# Altium footprint library Fasteners & Fixings.PcbLib: 118 footprints (part 1 of 8)
Each footprint in its own frame and in the unit in brackets; x right, y up, seen from the top. Pads: shape width x height; smd on the part's side, far side on the other; paste and mask are expansions set on the pad; w line width, h text height; cw(c..) or ccw(c..) is an arc to the next point about the centre after c.
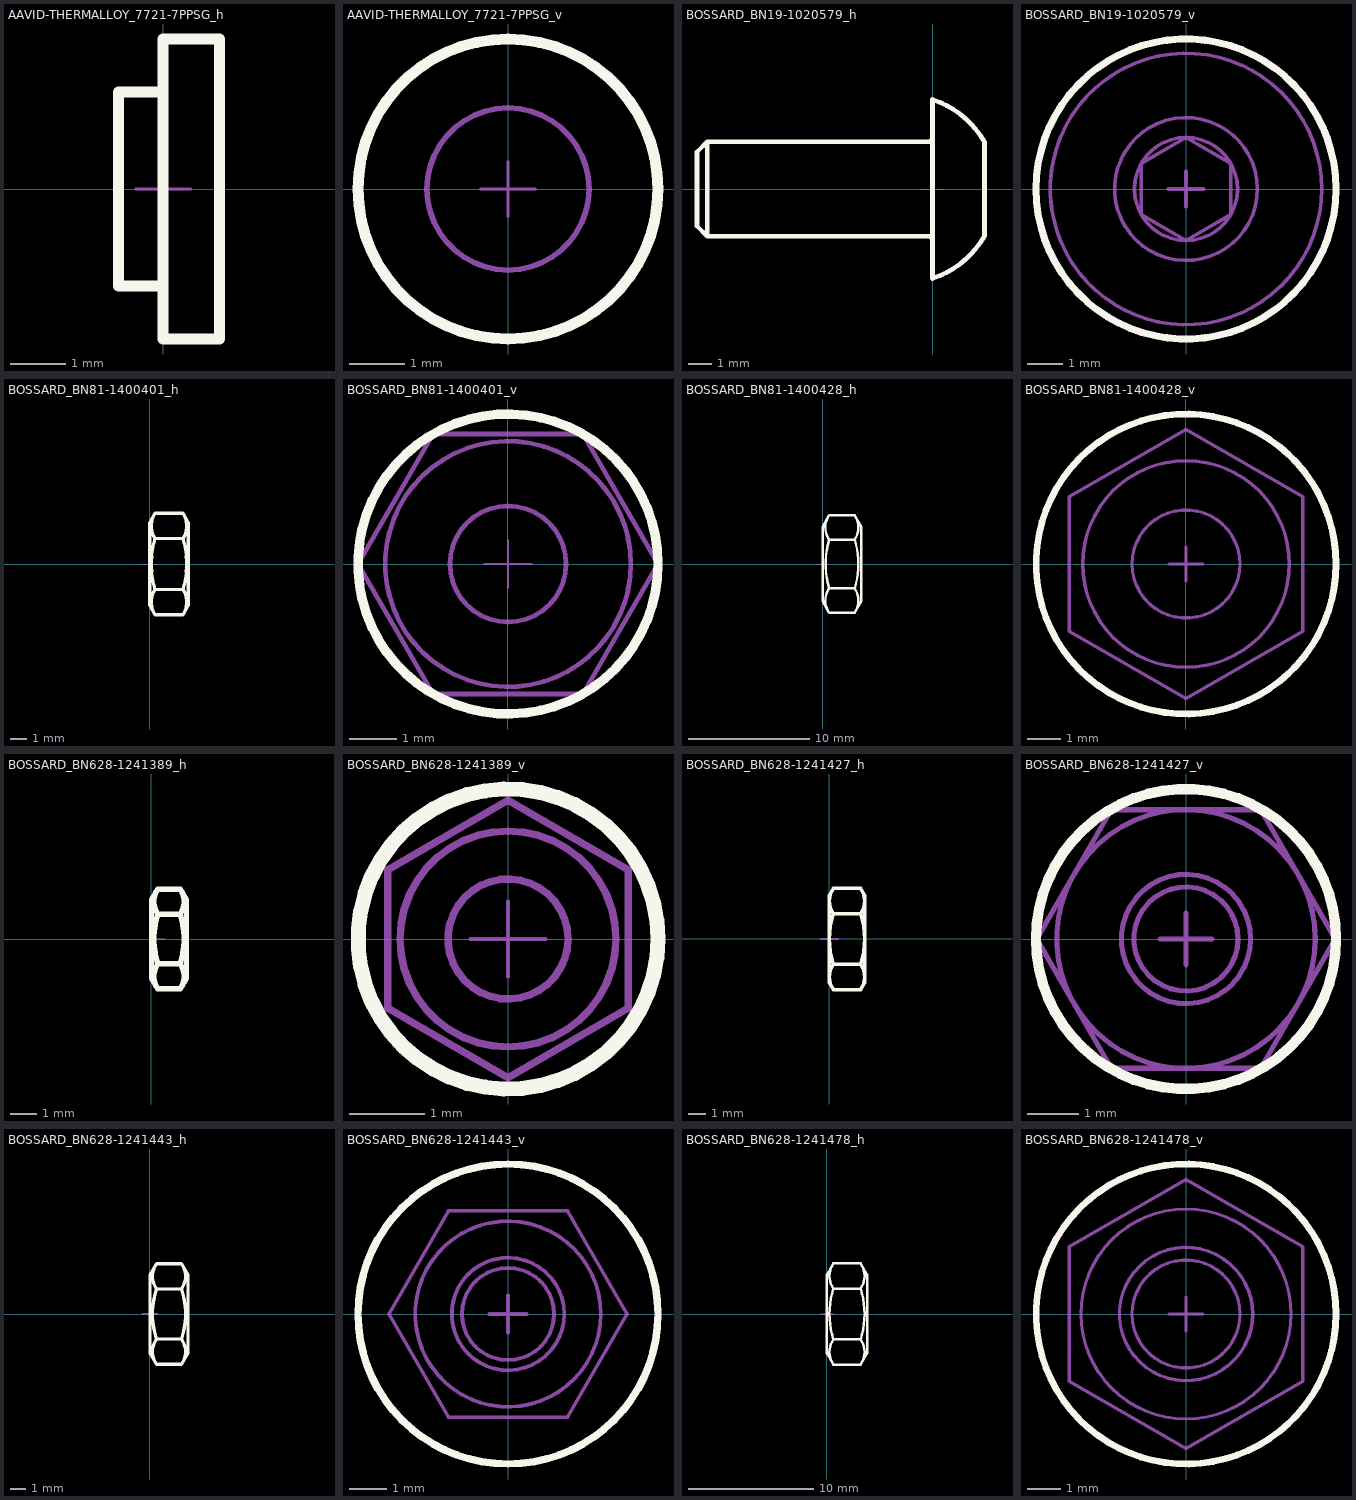
[diagram p0: the footprints below, top view; thin cyan lines are the x and y axes]

## AAVID-THERMALLOY_7721-7PPSG_h [mm] "Polyphenylene Sulfide PPS Shoulder Washer"
height 5.46
Top Overlay:
  lines w0.2: 0,-1.765 -0.81,-1.765 -0.81,1.765 0,1.765 ; 0,-2.73 1.02,-2.73 1.02,2.73 0,2.73 0,-2.73
Mechanical 8:
  lines w0.05: -0.5,0 0,0 ; 0,-0.5 0,0 ; 0,0.5 0,0 ; 0.5,0 0,0
Mechanical 14:
  lines w0.1: 0,-1.765 -0.81,-1.765 -0.81,1.765 0,1.765 ; 0,-2.73 1.02,-2.73 1.02,2.73 0,2.73 0,-2.73
3D body "AAVID-THERMALLOY_7721-7PPSG_h.stp": height 2.73, standoff -2.73, extent -0.81,-2.729 1.02,2.729

## AAVID-THERMALLOY_7721-7PPSG_v [mm] "Polyphenylene Sulfide PPS Shoulder Washer"
height 1.91
Top Overlay:
  circle w0.2: c0,0 r2.73
Mechanical 8:
  lines w0.05: -0.5,0 0,0 ; 0,-0.5 0,0 ; 0,0.5 0,0 ; 0.5,0 0,0
Mechanical 14:
  circle w0.1: c0,0 r1.475
  circle w0.1: c0,0 r2.73
3D body "AAVID-THERMALLOY_7721-7PPSG_v.stp": height 1.02, standoff -0.81, extent -2.73,-2.729 2.73,2.729

## BOSSARD_BN19-1020579_h [mm] "M4 L=10mm Hex Socket Button Head Cap Screw, Fully Threaded, Steel 010.9 Black"
height 7.6
Top Overlay:
  lines w0.2: 0,-2.2 ccw(c-0.2,-2.2) -0.2,-2 -9.57,-2 ; 0,2.2 cw(c-0.2,2.2) -0.2,2 -9.57,2 ; -9.57,-2 -10,-1.57 -10,1.57 -9.57,2 ; -9.57,-2 -9.57,2 ; 0,-3.8 ccw(c-1.273,0) 2.2,-2 2.2,2 ccw(c-1.273,0) 0,3.8 0,-3.8
Mechanical 8:
  lines w0.05: -0.5,0 0,0 ; 0,-0.5 0,0 ; 0,0.5 0,0 ; 0.5,0 0,0
Mechanical 14:
  lines w0.1: 0,-2.2 ccw(c-0.2,-2.2) -0.2,-2 -9.57,-2 ; 0,2.2 cw(c-0.2,2.2) -0.2,2 -9.57,2 ; -9.57,-2 -10,-1.57 -10,1.57 -9.57,2 ; -9.57,-2 -9.57,2 ; 0,-3.8 ccw(c-1.273,0) 2.2,-2 2.2,2 ccw(c-1.273,0) 0,3.8 0,-3.8
3D body "BOSSARD_BN19-1020579_h.stp": height 3.8, standoff -3.8, extent -10,-3.8 2.2,3.8

## BOSSARD_BN19-1020579_v [mm] "M4 L=10mm Hex Socket Button Head Cap Screw, Fully Threaded, Steel 010.9 Black"
height 12.2
Top Overlay:
  circle w0.2: c0,0 r4.2
Mechanical 8:
  lines w0.1: -0.5,0 0,0 ; 0,-0.5 0,0 ; 0,0.5 0,0 ; 0.5,0 0,0
Mechanical 14:
  circle w0.1: c0,0 r3.8
  circle w0.1: c0,0 r2
  circle w0.1: c0,0 r1.443
  lines w0.1: -1.25,-0.722 0,-1.443 1.25,-0.722 1.25,0.722 0,1.443 -1.25,0.722 -1.25,-0.722
3D body "BOSSARD_BN19-1020579_v.stp": height 2.2, standoff -10, extent -3.8,-3.8 3.8,3.8

## BOSSARD_BN81-1400401_h [mm] "M3 Hexagon Nut ~0,8d, DIN 555, Polyamide PA 6.6"
height 6.35
Top Overlay:
  lines w0.2: 0.332,-3.175 cw(c1.492,-2.382) 0.332,-1.588 ; 0.332,-3.175 2.068,-3.175 ; 0.332,-3.175 0,-2.6 0,2.6 0.332,3.175 ; 0.332,-1.588 cw(c5.341,0) 0.332,1.588 ; 0.332,-1.588 2.068,-1.588 ; 0.332,1.588 cw(c1.492,2.382) 0.332,3.175 ; 0.332,1.588 2.068,1.588 ; 0.332,3.175 2.068,3.175 ; 2.068,-3.175 ccw(c0.908,-2.382) 2.068,-1.588 ; 2.068,-3.175 2.4,-2.6 2.4,2.6 2.068,3.175 ; 2.068,-1.588 ccw(c-2.941,0) 2.068,1.588 ; 2.068,1.588 ccw(c0.908,2.382) 2.068,3.175
Mechanical 8:
  lines w0.05: -0.5,0 0,0 ; 0,-0.5 0,0 ; 0,0.5 0,0 ; 0.5,0 0,0
Mechanical 14:
  lines w0.1: 0.332,-3.175 cw(c1.492,-2.382) 0.332,-1.588 ; 0.332,-3.175 2.068,-3.175 ; 0.332,-3.175 0,-2.6 0,2.6 0.332,3.175 ; 0.332,-1.588 cw(c5.341,0) 0.332,1.588 ; 0.332,-1.588 2.068,-1.588 ; 0.332,1.588 cw(c1.492,2.382) 0.332,3.175 ; 0.332,1.588 2.068,1.588 ; 0.332,3.175 2.068,3.175 ; 2.068,-3.175 ccw(c0.908,-2.382) 2.068,-1.588 ; 2.068,-3.175 2.4,-2.6 2.4,2.6 2.068,3.175 ; 2.068,-1.588 ccw(c-2.941,0) 2.068,1.588 ; 2.068,1.588 ccw(c0.908,2.382) 2.068,3.175
3D body "BOSSARD_BN81-1400401_h.stp": height 2.75, standoff -2.75, extent 0,-3.175 2.4,3.176

## BOSSARD_BN81-1400401_v [mm] "M3 Hexagon Nut ~0,8d, DIN 555, Polyamide PA 6.6"
height 2.4
Top Overlay:
  circle w0.2: c0,0 r3.175
Mechanical 8:
  lines w0.05: -0.5,0 0,0 ; 0,-0.5 0,0 ; 0,0.5 0,0 ; 0.5,0 0,0
Mechanical 14:
  circle w0.1: c0,0 r2.6
  circle w0.1: c0,0 r1.229
  lines w0.1: -3.175,0 -1.588,-2.75 1.588,-2.75 3.176,0 1.588,2.75 -1.588,2.75 -3.175,0
3D body "BOSSARD_BN81-1400401_v.stp": height 2.4, standoff 0, extent -3.175,-2.75 3.176,2.75

## BOSSARD_BN81-1400428_h [mm] "M4 Hexagon Nuts ~0,8d - DIN555 - Polyamide PA 6.6"
height 7.66
Top Overlay:
  lines w0.2: 0,-3.1 0.544,-4.041 ; 0,-3.1 0,3.1 ; 0,-3.1 0.544,-4.041 ; 0,-3.1 0,3.1 ; 0,3.1 0.544,4.041 ; 0,3.1 0.544,4.041 ; 0.544,-4.041 cw(c2.02,-3.031) 0.544,-2.021 ; 0.544,-4.041 2.657,-4.041 ; 0.544,-4.041 2.657,-4.041 ; 0.544,-2.021 cw(c7.352,0) 0.544,2.021 ; 0.544,-2.021 2.657,-2.021 ; 0.544,2.021 cw(c2.02,3.031) 0.544,4.041 ; 0.544,2.021 2.657,2.021 ; 0.544,4.041 2.657,4.041 ; 0.544,4.041 2.657,4.041 ; 2.657,-4.041 ccw(c1.18,-3.031) 2.657,-2.021 ; 2.657,-4.041 3.2,-3.1 ; 2.657,-4.041 3.2,-3.1 ; 2.657,-2.021 ccw(c-3.718,0) 2.657,2.021 ; 2.657,2.021 ccw(c1.18,3.031) 2.657,4.041 ; 2.657,4.041 3.2,3.1 ; 2.657,4.041 3.2,3.1 ; 3.2,-3.1 3.2,3.1 ; 3.2,-3.1 3.2,3.1
Mechanical 8:
  lines w0.1: -0.5,0 0,0 ; 0,-0.5 0,0 ; 0,0.5 0,0 ; 0.5,0 0,0
Mechanical 14:
  lines w0.1: 0,-3.1 0.544,-4.041 ; 0,-3.1 0,3.1 ; 0,-3.1 0.544,-4.041 ; 0,-3.1 0,3.1 ; 0,3.1 0.544,4.041 ; 0,3.1 0.544,4.041 ; 0.544,-4.041 cw(c2.02,-3.031) 0.544,-2.021 ; 0.544,-4.041 2.657,-4.041 ; 0.544,-4.041 2.657,-4.041 ; 0.544,-2.021 cw(c7.352,0) 0.544,2.021 ; 0.544,-2.021 2.657,-2.021 ; 0.544,2.021 cw(c2.02,3.031) 0.544,4.041 ; 0.544,2.021 2.657,2.021 ; 0.544,4.041 2.657,4.041 ; 0.544,4.041 2.657,4.041 ; 2.657,-4.041 ccw(c1.18,-3.031) 2.657,-2.021 ; 2.657,-4.041 3.2,-3.1 ; 2.657,-4.041 3.2,-3.1 ; 2.657,-2.021 ccw(c-3.718,0) 2.657,2.021 ; 2.657,2.021 ccw(c1.18,3.031) 2.657,4.041 ; 2.657,4.041 3.2,3.1 ; 2.657,4.041 3.2,3.1 ; 3.2,-3.1 3.2,3.1 ; 3.2,-3.1 3.2,3.1
3D body "BOSSARD_BN81-1400428_h.stp": height 3.5, standoff -3.5, extent 0,-4.041 3.2,4.042

## BOSSARD_BN81-1400428_v [mm] "M4 Hexagon Nuts ~0,8d - DIN555 - Polyamide PA 6.6"
height 3.2
Top Overlay:
  circle w0.2: c0,0 r4.5
Mechanical 8:
  lines w0.1: -0.5,0 0,0 ; 0,-0.5 0,0 ; 0,0.5 0,0 ; 0.5,0 0,0
Mechanical 14:
  circle w0.1: c0,0 r1.621
  circle w0.1: c0,0 r3.1
  lines w0.1: -3.5,-2.021 0,-4.041 3.5,-2.021 3.5,2.021 0,4.041 -3.5,2.021 -3.5,-2.021
3D body "BOSSARD_BN81-1400428_v.stp": height 3.2, standoff 0, extent -3.5,-4.041 3.5,4.042

## BOSSARD_BN628-1241389_h [mm] "M1.6 Hexagon Nut ~0,8d, ISO 4032, DIN 934, Stainless Steel A2"
height 3.41
Top Overlay:
  lines w0.2: 0.235,-1.848 cw(c0.91,-1.386) 0.235,-0.924 ; 0.235,-1.848 1.065,-1.848 ; 0.235,-1.848 0,-1.44 0,1.44 0.235,1.848 ; 0.235,-0.924 cw(c3.149,0) 0.235,0.924 ; 0.235,-0.924 1.065,-0.924 ; 0.235,0.924 cw(c0.91,1.386) 0.235,1.848 ; 0.235,0.924 1.065,0.924 ; 0.235,1.848 1.065,1.848 ; 1.065,-1.848 ccw(c0.39,-1.386) 1.065,-0.924 ; 1.065,-1.848 1.3,-1.44 1.3,1.44 1.065,1.848 ; 1.065,-0.924 ccw(c-1.849,0) 1.065,0.924 ; 1.065,0.924 ccw(c0.39,1.386) 1.065,1.848
Mechanical 8:
  lines w0.05: 0,-0.5 0,0 ; 0,0.5 0,0 ; 0.5,0 0,0
Mechanical 14:
  lines w0.1: 0.235,-1.848 cw(c0.91,-1.386) 0.235,-0.924 ; 0.235,-1.848 1.065,-1.848 ; 0.235,-1.848 0,-1.44 0,1.44 0.235,1.848 ; 0.235,-0.924 cw(c3.149,0) 0.235,0.924 ; 0.235,-0.924 1.065,-0.924 ; 0.235,0.924 cw(c0.91,1.386) 0.235,1.848 ; 0.235,0.924 1.065,0.924 ; 0.235,1.848 1.065,1.848 ; 1.065,-1.848 ccw(c0.39,-1.386) 1.065,-0.924 ; 1.065,-1.848 1.3,-1.44 1.3,1.44 1.065,1.848 ; 1.065,-0.924 ccw(c-1.849,0) 1.065,0.924 ; 1.065,0.924 ccw(c0.39,1.386) 1.065,1.848
3D body "BOSSARD_BN628-1241389_h.stp": height 1.6, standoff -1.6, extent 0,-1.847 1.3,1.847

## BOSSARD_BN628-1241389_v [mm] "M1.6 Hexagon Nut ~0,8d, ISO 4032, DIN 934, Stainless Steel A2"
height 1.3
Top Overlay:
  circle w0.2: c0,0 r2
Mechanical 8:
  lines w0.05: -0.5,0 0,0 ; 0,-0.5 0,0 ; 0,0.5 0,0 ; 0.5,0 0,0
Mechanical 14:
  circle w0.1: c0,0 r0.8
  circle w0.1: c0,0 r1.44
  lines w0.1: -1.6,-0.924 -1.6,0.924 0,1.848 1.6,0.924 1.6,-0.924 0,-1.848 -1.6,-0.924
3D body "BOSSARD_BN628-1241389_v.stp": height 1.3, standoff 0, extent -1.6,-1.847 1.6,1.848

## BOSSARD_BN628-1241427_h [mm] "M2.5 Hexagon Nut ~0,8d, ISO 4032, DIN 934, Stainless Steel A2"
height 5.45
Top Overlay:
  lines w0.2: 0.223,-2.887 cw(c1.278,-2.165) 0.223,-1.444 ; 0.223,-2.887 1.777,-2.887 ; 0.223,-2.887 0,-2.5 0,2.5 0.223,2.887 ; 0.223,-1.444 cw(c4.777,0) 0.223,1.443 ; 0.223,-1.444 1.777,-1.444 ; 0.223,1.443 cw(c1.278,2.165) 0.223,2.887 ; 0.223,1.443 1.777,1.443 ; 0.223,2.887 1.777,2.887 ; 1.777,-2.887 ccw(c0.722,-2.165) 1.777,-1.444 ; 1.777,-2.887 2,-2.5 2,2.5 1.777,2.887 ; 1.777,-1.444 ccw(c-2.777,0) 1.777,1.443 ; 1.777,1.443 ccw(c0.722,2.165) 1.777,2.887
Mechanical 8:
  lines w0.1: -0.5,0 0,0 ; 0,-0.5 0,0 ; 0,0.5 0,0 ; 0.5,0 0,0 ; 2,-0.5 2,0 2,0.5
Mechanical 14:
  lines w0.1: 0.223,-2.887 cw(c1.278,-2.165) 0.223,-1.444 ; 0.223,-2.887 1.777,-2.887 ; 0.223,-2.887 0,-2.5 0,2.5 0.223,2.887 ; 0.223,-1.444 cw(c4.777,0) 0.223,1.443 ; 0.223,-1.444 1.777,-1.444 ; 0.223,1.443 cw(c1.278,2.165) 0.223,2.887 ; 0.223,1.443 1.777,1.443 ; 0.223,2.887 1.777,2.887 ; 1.777,-2.887 ccw(c0.722,-2.165) 1.777,-1.444 ; 1.777,-2.887 2,-2.5 2,2.5 1.777,2.887 ; 1.777,-1.444 ccw(c-2.777,0) 1.777,1.443 ; 1.777,1.443 ccw(c0.722,2.165) 1.777,2.887
3D body "BOSSARD_BN628-1241427_h.stp": height 2.5, standoff -2.5, extent 0,-2.887 2,2.887

## BOSSARD_BN628-1241427_v [mm] "M2.5 Hexagon Nut ~0,8d, ISO 4032 - DIN 934, Stainless Steel A2"
height 2
Top Overlay:
  circle w0.2: c0,0 r2.9
Mechanical 8:
  lines w0.1: -0.5,0 0,0 ; 0,-0.5 0,0 ; 0,0.5 0,0 ; 0.5,0 0,0
Mechanical 14:
  circle w0.1: c0,0 r2.5
  circle w0.1: c0,0 r1.25
  circle w0.1: c0,0 r1.007
  lines w0.1: -2.887,0 -1.443,-2.5 1.443,-2.5 2.887,0 1.443,2.5 -1.443,2.5 -2.887,0
3D body "BOSSARD_BN628-1241427_v.stp": height 2, standoff 0, extent -2.887,-2.5 2.887,2.5

## BOSSARD_BN628-1241443_h [mm] "M3 Hexagon Nut ~0,8d, ISO 4032, DIN 934, Stainless Steel A2"
height 6.01
Top Overlay:
  lines w0.2: 0.404,-3.175 cw(c1.564,-2.382) 0.404,-1.588 ; 0.404,-3.175 1.996,-3.175 ; 0.404,-3.175 0,-2.475 0,2.475 0.404,3.175 ; 0.404,-1.588 cw(c5.413,0) 0.404,1.588 ; 0.404,-1.588 1.996,-1.588 ; 0.404,1.588 cw(c1.564,2.382) 0.404,3.175 ; 0.404,1.588 1.996,1.588 ; 0.404,3.175 1.996,3.175 ; 1.996,-3.175 ccw(c0.836,-2.382) 1.996,-1.588 ; 1.996,-3.175 2.4,-2.475 2.4,2.475 1.996,3.175 ; 1.996,-1.588 ccw(c-3.013,0) 1.996,1.588 ; 1.996,1.588 ccw(c0.836,2.382) 1.996,3.175
Mechanical 8:
  lines w0.1: -0.5,0 0,0 ; 0,-0.5 0,0 ; 0,0.5 0,0 ; 0.5,0 0,0
Mechanical 14:
  lines w0.1: 0.404,-3.175 cw(c1.564,-2.382) 0.404,-1.588 ; 0.404,-3.175 1.996,-3.175 ; 0.404,-3.175 0,-2.475 0,2.475 0.404,3.175 ; 0.404,-1.588 cw(c5.413,0) 0.404,1.588 ; 0.404,-1.588 1.996,-1.588 ; 0.404,1.588 cw(c1.564,2.382) 0.404,3.175 ; 0.404,1.588 1.996,1.588 ; 0.404,3.175 1.996,3.175 ; 1.996,-3.175 ccw(c0.836,-2.382) 1.996,-1.588 ; 1.996,-3.175 2.4,-2.475 2.4,2.475 1.996,3.175 ; 1.996,-1.588 ccw(c-3.013,0) 1.996,1.588 ; 1.996,1.588 ccw(c0.836,2.382) 1.996,3.175
3D body "BOSSARD_BN628-1241443_h.stp": height 2.75, standoff -2.75, extent 0,-3.175 2.4,3.175

## BOSSARD_BN628-1241443_v [mm] "M3 Hexagon Nut ~0,8d, ISO 4032, DIN 934, Stainless Steel A2"
height 2.4
Top Overlay:
  circle w0.2: c0,0 r4
Mechanical 8:
  lines w0.1: -0.5,0 0,0 ; 0,-0.5 0,0 ; 0,0.5 0,0 ; 0.5,0 0,0
Mechanical 14:
  circle w0.1: c0,0 r2.475
  circle w0.1: c0,0 r1.5
  circle w0.1: c0,0 r1.229
  lines w0.1: -3.175,0 -1.588,2.75 1.588,2.75 3.175,0 1.588,-2.75 -1.588,-2.75 -3.175,0
3D body "BOSSARD_BN628-1241443_v.stp": height 2.4, standoff 0, extent -3.175,-2.75 3.176,2.75

## BOSSARD_BN628-1241478_h [mm] "M4 Hexagon Nut ~0,8d, ISO 4032, DIN 934, Stainless Steel A2"
height 7.66
Top Overlay:
  lines w0.2: 0.515,-4.041 cw(c1.991,-3.031) 0.515,-2.021 ; 0.515,-4.041 2.685,-4.041 ; 0.515,-4.041 0,-3.15 0,3.15 0.515,4.041 ; 0.515,-2.021 cw(c6.89,0) 0.515,2.021 ; 0.515,-2.021 2.685,-2.021 ; 0.515,2.021 cw(c1.991,3.031) 0.515,4.041 ; 0.515,2.021 2.685,2.021 ; 0.515,4.041 2.685,4.041 ; 2.685,-4.041 ccw(c1.209,-3.031) 2.685,-2.021 ; 2.685,-4.041 3.2,-3.15 3.2,3.15 2.685,4.041 ; 2.685,-2.021 ccw(c-3.689,0) 2.685,2.021 ; 2.685,2.021 ccw(c1.209,3.031) 2.685,4.041
Mechanical 8:
  lines w0.1: -0.5,0 0,0 ; 0,-0.5 0,0 ; 0,0.5 0,0 ; 0.5,0 0,0
Mechanical 14:
  lines w0.1: 0.515,-4.041 cw(c1.991,-3.031) 0.515,-2.021 ; 0.515,-4.041 2.685,-4.041 ; 0.515,-4.041 0,-3.15 0,3.15 0.515,4.041 ; 0.515,-2.021 cw(c6.89,0) 0.515,2.021 ; 0.515,-2.021 2.685,-2.021 ; 0.515,2.021 cw(c1.991,3.031) 0.515,4.041 ; 0.515,2.021 2.685,2.021 ; 0.515,4.041 2.685,4.041 ; 2.685,-4.041 ccw(c1.209,-3.031) 2.685,-2.021 ; 2.685,-4.041 3.2,-3.15 3.2,3.15 2.685,4.041 ; 2.685,-2.021 ccw(c-3.689,0) 2.685,2.021 ; 2.685,2.021 ccw(c1.209,3.031) 2.685,4.041
3D body "BOSSARD_BN628-1241478_h.stp": height 3.5, standoff -3.5, extent 0,-4.041 3.2,4.041

## BOSSARD_BN628-1241478_v [mm] "M4 Hexagon Nut ~0,8d, ISO 4032, DIN 934, Stainless Steel A2"
height 3.2
Top Overlay:
  circle w0.2: c0,0 r4.5
Mechanical 8:
  lines w0.1: -0.5,0 0,0 ; 0,-0.5 0,0 ; 0,0.5 0,0 ; 0.5,0 0,0
Mechanical 14:
  circle w0.1: c0,0 r3.15
  circle w0.1: c0,0 r1.621
  circle w0.1: c0,0 r2
  lines w0.1: -3.5,-2.021 -3.5,2.021 0,4.041 3.5,2.021 3.5,-2.021 0,-4.041 -3.5,-2.021
3D body "BOSSARD_BN628-1241478_v.stp": height 3.2, standoff 0, extent -3.5,-4.041 3.5,4.042